# EAGLE library part MPU-9150 (library mpu9150)
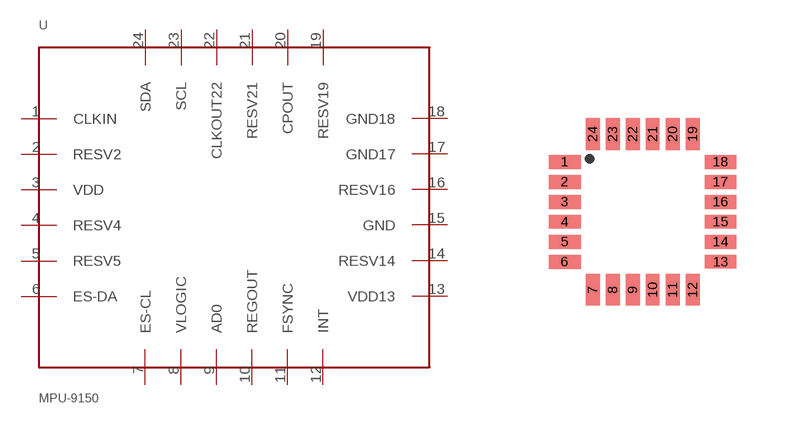
[diagram p0: symbol with the pads of MPU-9150; footprint MPU-9150]

Designator prefix -

## MPU-9150  [MPU-9150]
1  CLKIN
2  RESV2
3  VDD
4  RESV4
5  RESV5
6  ES-DA
7  ES-CL
8  VLOGIC
9  AD0
10  REGOUT
11  FSYNC
12  INT
13  VDD13
14  RESV14
15  GND
16  RESV16
17  GND17
18  GND18
19  RESV19
20  CPOUT
21  RESV21
22  CLKOUT22
23  SCL
24  SDA

## Footprint MPU-9150 (pad centres in mm)
smd 0.8 x 0.35: 1 -1.9,1.2; 2 -1.9,0.7; 3 -1.9,0.2; 4 -1.9,-0.3; 5 -1.9,-0.8; 6 -1.9,-1.3; 14 2,-0.8; 15 2,-0.3; 16 2,0.2; 17 2,0.7; 18 2,1.2
smd 0.35 x 0.8: 7 -1.2,-2; 8 -0.7,-2; 9 -0.2,-2; 10 0.3,-2; 11 0.8,-2; 12 1.3,-2; 19 1.3,1.9; 20 0.8,1.9; 21 0.3,1.9; 22 -0.2,1.9; 23 -0.7,1.9; 24 -1.2,1.9
smd 0.8 x 0.34: 13 2,-1.3